# EAGLE library part PDA54-11EWA (library eagle-library-edeca.net-v5)
Kingbright PDA54-11EWA 14 segment common anode LED display
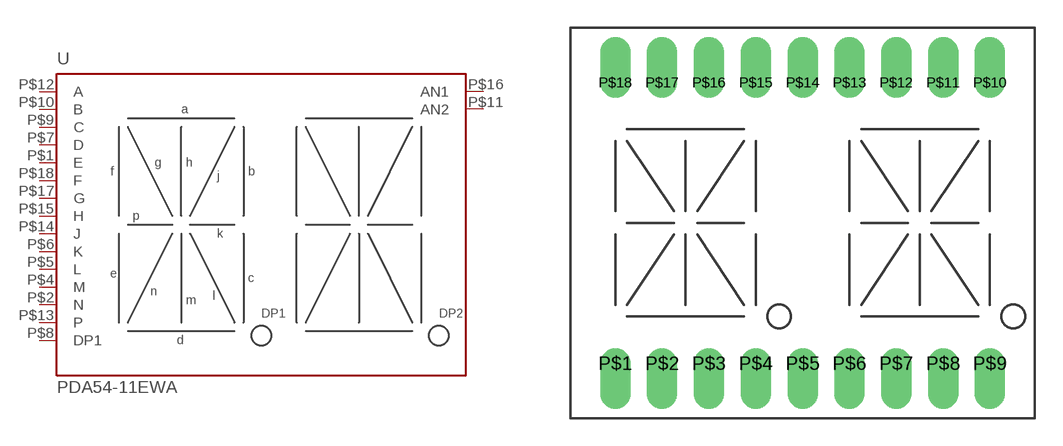
[diagram p20: symbol with the pads of PDA54-11XX; footprint PDA54-11XX]

Designator prefix -

## PDA54-11EWA  [PDA54-11XX]
P$1  E  pas
P$2  N  pas
P$4  M  pas
P$5  L  pas
P$6  K  pas
P$7  D  pas
P$8  DP1  pas
P$9  C  pas
P$10  B  pas
P$11  AN2  pas
P$12  A  pas
P$13  P  pas
P$14  J  pas
P$15  H  pas
P$16  AN1  pas
P$17  G  pas
P$18  F  pas

## Footprint PDA54-11XX (pad centres in mm)
drill 1.1 offset: P$1 -10.16,-7.62; P$2 -7.62,-7.62; P$3 -5.08,-7.62; P$4 -2.54,-7.62; P$5 0,-7.62; P$6 2.54,-7.62; P$7 5.08,-7.62; P$8 7.62,-7.62; P$9 10.16,-7.62; P$10 10.16,7.62; P$11 7.62,7.62; P$12 5.08,7.62; P$13 2.54,7.62; P$14 0,7.62; P$15 -2.54,7.62; P$16 -5.08,7.62; P$17 -7.62,7.62; P$18 -10.16,7.62